# Altium footprint library Basic.PcbLib: 1 footprints
Each footprint in its own frame and in the unit in brackets; x right, y up, seen from the top. Pads: shape width x height; smd on the part's side, far side on the other; paste and mask are expansions set on the pad; w line width, h text height; cw(c..) or ccw(c..) is an arc to the next point about the centre after c.
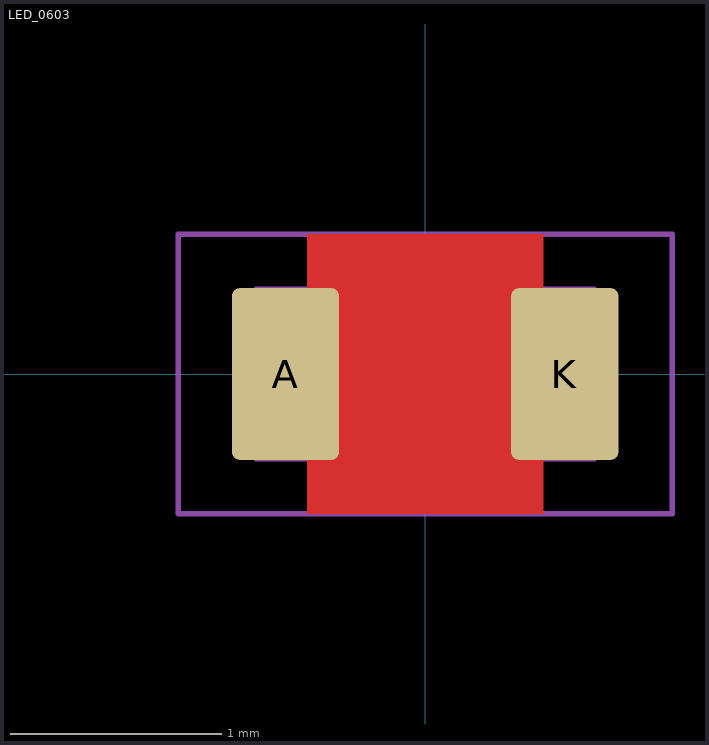
[diagram p0: the footprint, top view; thin cyan lines are the x and y axes]

## LED_0603 [mil]
pads (2):
  rrect15% 20x32 smd paste-2 mask+2: A(-26,0) K(26,0)
Top Layer:
  pour cut-out: 22,-26 -22,-26 -22,26 22,26
Top Solder:
  region: 18,22 -18,22 -18,-22 18,-22
  lines w6: -72.5,0 -57.5,0 ; -65,-7.5 -65,7.5
Top Designator:
  text ".Designator" at -54.7,-5.36 h15
Top Courtyard:
  lines w1: -46,-26 -46,26 46,26 46,-26 -46,-26
Top Component Outline:
  lines w1: -21.65,-15.75 -21.65,15.75 ; -15.75,-15.75 -15.75,15.75 ; 15.75,-15.75 15.75,15.75 ; 21.65,-15.75 21.65,15.75 ; -31.5,-15.75 -31.5,15.75 31.5,15.75 31.5,-15.75 -31.5,-15.75
3D body: height 10, standoff 5.1, extent 2.5,-9.5 11.5,-0.5
3D body: height 25, standoff 5.1, extent -21.65,-15.75 21.65,15.75
3D body: height 5, standoff 0.1, extent -2,-15.75 31.5,15.75
3D body: height 4.9, standoff 0, extent -17,-15.75 17,16
3D body: height 5, standoff 0.1, extent -31.5,-15.75 -8,15.75